# Altium integrated library GF-123-0054.IntLib: 1 symbol
Pins are listed as number, name and electrical type; pins without a type are passive.

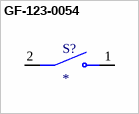
[diagram p0: symbol GF-123-0054]

## GF-123-0054
designator S?
Slide Switch SPST Through Hole; MP: GF-123-0054; MF: CW Industries; SnapEDA_Link: https://www.snapeda.com/parts/GF-123-0054/CW%20Industries/view-part/2176135/?ref=snap; Check_prices: https://www.snapeda.com/parts/GF-123-0054/CW%20Industries/view-part/2176135/?ref=eda; Price: None; Availability: Good; Purchase-URL: https://pricing.snapeda.com/search/part/GF-123-0054/?ref=eda; Package: None; Value: *
footprint SW_GF-123-0054
pins: 1, 2